# Altium schematic symbol library MOSFET.SchLib: 1 symbol
Pins are listed as number, name and electrical type; pins without a type are passive.

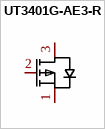
[diagram p0: symbol UT3401G-AE3-R]

## UT3401G-AE3-R
designator Q??  (value not drawn)
Manufacturer: UTC(友顺); Add into BOM: yes; Type: P沟道; Drain Source Voltage (Vdss): 30V; Continuous Drain Current (Id): 4.2A; Power Dissipation (Pd): 1.4W; Drain Source On Resistance (RDS(on)@Vgs,Id): 50mΩ@10V,4.2A; Gate Threshold Voltage (Vgs(th)@Id): 1.3V@250uA; Name: UT3401G-AE3-R; Symbol: UT3401G-AE3-R; Device: UT3401G-AE3-R; LCSC Part Name: P沟道 30V 4.2A; Supplier Part: C127014; Manufacturer Part: UT3401G-AE3-R; Supplier Footprint: SOT-23; JLCPCB Part Class: Extended Part; Datasheet: https://atta.szlcsc.com/upload/public/pdf/source/20170914/C127014_1505359342859967579.pdf; Supplier: LCSC; Convert to PCB: yes
footprint SOT-23-3_L2.9-W1.3-P1.90-LS2.4-BR
3D model SOT-23-3P_L2.9-W1.3-H1.0-LS2.4-P0.95
pins: 1 S, 2 G, 3 D